# EAGLE library part PICAXE-08M2 (library PICAXEv2)
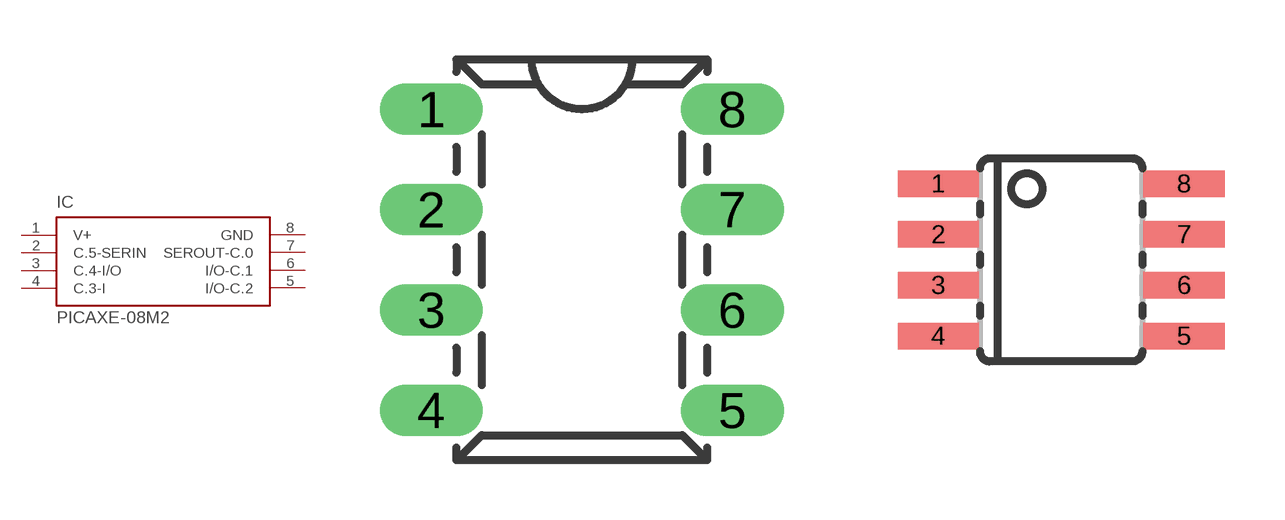
[diagram p0: symbol with the pads of DIL8; footprints DIL8, SOIC8]

Designator prefix IC

## PICAXE-08M2-DIL  [DIL8]
1  V+  pwr
2  C.5-SERIN  in
3  C.4-I/O
4  C.3-I  in
5  I/O-C.2
6  I/O-C.1
7  SEROUT-C.0  out
8  GND  pwr

## PICAXE-08M2-SMD  [SOIC8]
Pads as for DIL8

## Footprint DIL8 (pad centres in mm)
drill 0.8 pad 1.27 long: 1 -3.81,3.81; 2 -3.81,1.27; 3 -3.81,-1.27; 4 -3.81,-3.81; 5 3.81,-3.81; 6 3.81,-1.27; 7 3.81,1.27; 8 3.81,3.81

## Footprint SOIC8 (pad centres in mm)
smd 2.032 x 0.66: 1 -3.073,1.905; 2 -3.073,0.635; 3 -3.073,-0.635; 4 -3.073,-1.905; 5 3.073,-1.905; 6 3.073,-0.635; 7 3.073,0.635; 8 3.073,1.905